# Altium footprint library ESP8266EX.PcbLib: 1 footprints
Each footprint in its own frame and in the unit in brackets; x right, y up, seen from the top. Pads: shape width x height; smd on the part's side, far side on the other; paste and mask are expansions set on the pad; w line width, h text height; cw(c..) or ccw(c..) is an arc to the next point about the centre after c.
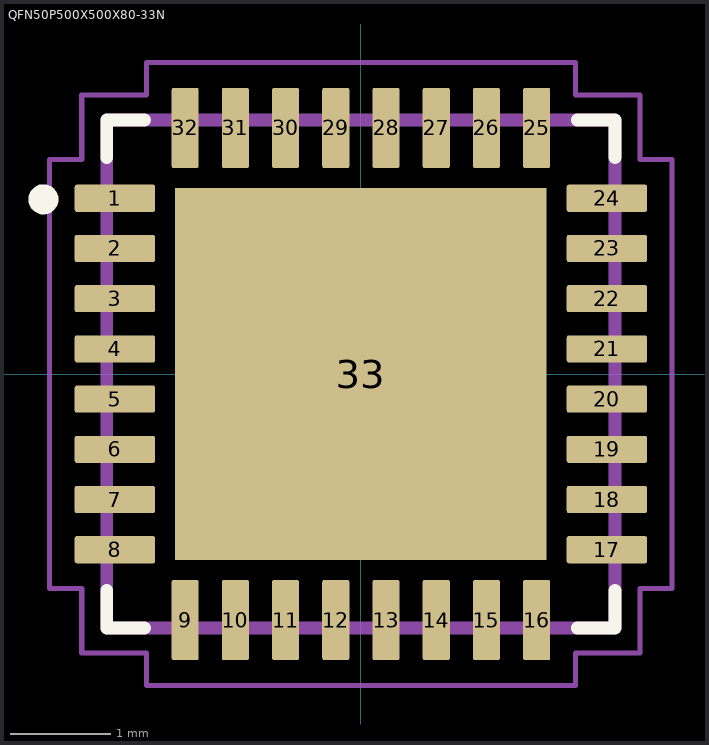
[diagram p0: the footprint, top view; thin cyan lines are the x and y axes]

## QFN50P500X500X80-33N [mm]
pads (33):
  rrect15% 0.8x0.27 smd: 1(-2.45,1.75) 2(-2.45,1.25) 3(-2.45,0.75) 4(-2.45,0.25) 5(-2.45,-0.25) 6(-2.45,-0.75) 7(-2.45,-1.25) 8(-2.45,-1.75) 17(2.45,-1.75) 18(2.45,-1.25) 19(2.45,-0.75) 20(2.45,-0.25) 21(2.45,0.25) 22(2.45,0.75) 23(2.45,1.25) 24(2.45,1.75)
  rrect15% 0.27x0.8 smd: 9(-1.75,-2.45) 10(-1.25,-2.45) 11(-0.75,-2.45) 12(-0.25,-2.45) 13(0.25,-2.45) 14(0.75,-2.45) 15(1.25,-2.45) 16(1.75,-2.45) 25(1.75,2.45) 26(1.25,2.45) 27(0.75,2.45) 28(0.25,2.45) 29(-0.25,2.45) 30(-0.75,2.45) 31(-1.25,2.45) 32(-1.75,2.45)
  rect 3.7x3.7 smd paste-0.679: 33(0,0)
Top Overlay:
  circle w0.15: c-3.163,1.739 r0.075
  lines w0.127: -2.53,-2.156 -2.53,-2.53 -2.156,-2.53 ; -2.53,2.156 -2.53,2.53 -2.156,2.53 ; 2.156,-2.53 2.53,-2.53 2.53,-2.156 ; 2.156,2.53 2.53,2.53 2.53,2.156
Mechanical 13:
  lines w0.127: -2.53,-2.53 -2.53,2.53 2.53,2.53 2.53,-2.53 -2.53,-2.53
Mechanical 15:
  lines w0.05: -3.1,-2.135 -2.78,-2.135 -2.78,-2.78 -2.135,-2.78 -2.135,-3.1 2.135,-3.1 2.135,-2.78 2.78,-2.78 2.78,-2.135 3.1,-2.135 3.1,2.135 2.78,2.135 2.78,2.78 2.135,2.78 2.135,3.1 -2.135,3.1 -2.135,2.78 -2.78,2.78 -2.78,2.135 -3.1,2.135 -3.1,-2.135
3D body "step_temp.STEP": height 0.9, standoff 0, extent -2.5,-2.5 2.5,2.5